# Altium schematic symbol library TPS783xx.SchLib: 1 symbol
Pins are listed as number, name and electrical type; pins without a type are passive.

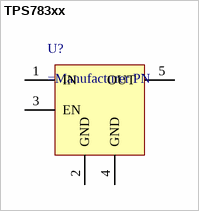
[diagram p0: symbol TPS783xx]

## TPS783xx
designator U?
pins: 1 IN, 2 GND, 3 EN, 4 GND, 5 OUT